# Altium footprint library SOT89-5.PcbLib: 1 footprints
Each footprint in its own frame and in the unit in brackets; x right, y up, seen from the top. Pads: shape width x height; smd on the part's side, far side on the other; paste and mask are expansions set on the pad; w line width, h text height; cw(c..) or ccw(c..) is an arc to the next point about the centre after c.
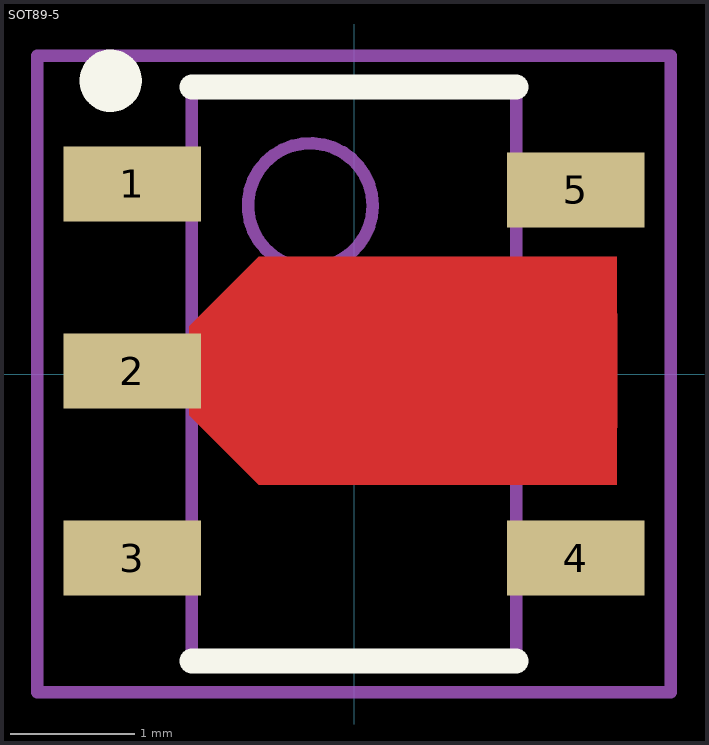
[diagram p0: the footprint, top view; thin cyan lines are the x and y axes]

## SOT89-5 [mm] "Low Vcesat  PNP Epitaxial Planar Transistor"
height 1.6
pads (5):
  rect 1.1x0.6 smd: 1(-1.778,1.524) 2(-1.778,0.024) 3(-1.778,-1.476) 4(1.778,-1.476) 5(1.778,1.476)
Top Layer:
  rectangle: 1.651,-0.889 2.108,0.94
  region: -1.321,0.381 -0.762,0.94 1.651,0.94 2.108,0.483 2.108,-0.432 1.651,-0.889 -0.762,-0.889 -1.321,-0.33
Top Overlay:
  circle w0.25: c-1.95,2.35 r0.125
  lines w0.2: -1.3,-2.3 1.3,-2.3 ; -1.3,2.3 1.3,2.3
Top Solder:
  rectangle: 1.524,-0.889 2.108,0.94
  region: -0.762,0.94 -1.295,0.406 -1.295,-0.381 -1.27,-0.381 -0.762,-0.889 1.651,-0.889 2.108,-0.432 2.108,0.483 1.651,0.94
Mechanical 13:
  circle w0.1: c-0.35,1.35 r0.5
  lines w0.1: -1.3,-2.3 -1.3,2.3 1.3,2.3 1.3,-2.3 -1.3,-2.3
Mechanical 15:
  lines w0.1: -0.5,0 0.5,0 ; 0,-0.5 0,0.5 ; -2.54,-2.55 -2.54,2.55 2.54,2.55 2.54,-2.55 -2.54,-2.55
3D body: height 1.54, standoff 0, extent -2.25,-2.25 2.25,2.25